# Altium footprint library Resistors THD.PcbLib: 108 footprints (part 5 of 7)
Each footprint in its own frame and in the unit in brackets; x right, y up, seen from the top. Pads: shape width x height; smd on the part's side, far side on the other; paste and mask are expansions set on the pad; w line width, h text height; cw(c..) or ccw(c..) is an arc to the next point about the centre after c.
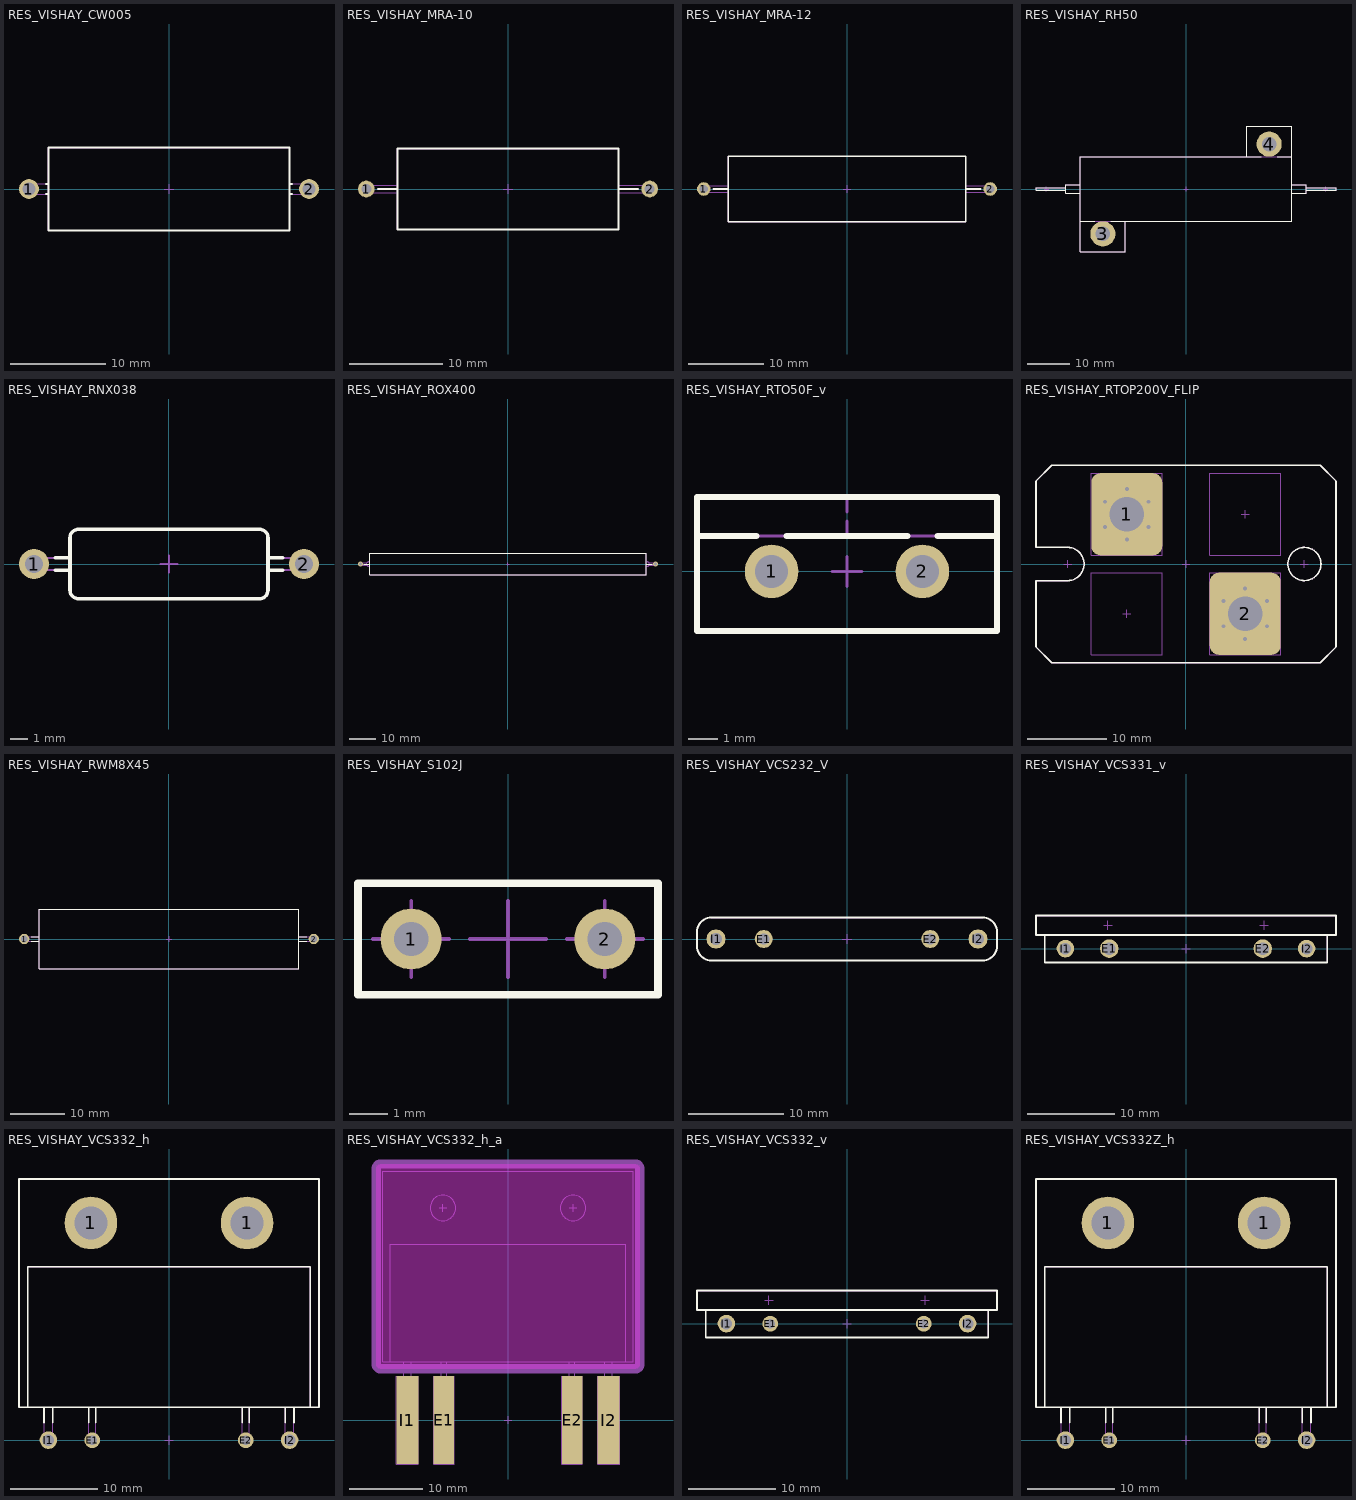
[diagram p4: the footprints below, top view; thin cyan lines are the x and y axes]

## RES_VISHAY_CW005 [mm] "Resistor, Axial, Pad spacing 29.5mm - Body Lengh 25.4mm X Body Diameter 8.74mm"
height 8.74
pads (2):
  round 2.1 hole 1.4: 1(-14.75,0) 2(14.75,0)
Top Overlay:
  lines w0.2: -12.965,-0.535 -12.7,-0.535 ; -12.965,0.535 -12.7,0.535 ; 12.7,-0.535 12.965,-0.535 ; 12.7,0.535 12.965,0.535 ; -12.7,-4.37 12.7,-4.37 12.7,4.37 -12.7,4.37 -12.7,-4.37
Mechanical 8:
  circle w0.05: c14.75,0 r0.7
  circle w0.05: c-14.75,0 r0.7
  lines w0.05: -15.25,0 -14.75,0 ; -14.75,-0.5 -14.75,0 ; -14.75,0.5 -14.75,0 ; -14.25,0 -14.75,0 ; -0.5,0 0,0 ; 0,-0.5 0,0 ; 0,0.5 0,0 ; 0.5,0 0,0 ; 14.25,0 14.75,0 ; 14.75,-0.5 14.75,0 ; 14.75,0.5 14.75,0 ; 15.25,0 14.75,0
Mechanical 14:
  lines w0.1: -12.7,-0.535 -14.75,-0.535 cw(c-14.75,0) -14.75,0.535 -12.7,0.535 ; 12.7,-0.535 14.75,-0.535 ccw(c14.75,0) 14.75,0.535 12.7,0.535 ; -12.7,-4.37 12.7,-4.37 12.7,4.37 -12.7,4.37 -12.7,-4.37
3D body "RES_VISHAY_CW005.stp": height 8.74, standoff -3.6, extent -15.285,-4.37 15.285,4.37

## RES_VISHAY_MRA-10 [mm] "Resistor, Axial, Pad spacing 30.48mm - Body Lengh 22.22mm X Body Diameter 7.92mm"
height 8.71
pads (2):
  round 1.8 hole 1.1: 1(-15.24,0) 2(15.24,0)
Top Overlay:
  lines w0.2: -14.011,0 -11.895,0 ; 11.895,0 14.011,0 ; -11.895,-4.355 -11.895,4.355 11.895,4.355 11.895,-4.355 -11.895,-4.355
Mechanical 8:
  lines w0.1: -15.74,0 -15.24,0 ; -15.24,-0.5 -15.24,0 ; -15.24,0.5 -15.24,0 ; -14.74,0 -15.24,0 ; -0.5,0 0,0 ; 0,-0.5 0,0 ; 0,0.5 0,0 ; 0.5,0 0,0 ; 14.74,0 15.24,0 ; 15.24,-0.5 15.24,0 ; 15.24,0.5 15.24,0 ; 15.74,0 15.24,0
Mechanical 14:
  lines w0.1: -11.895,-0.425 -15.24,-0.425 cw(c-15.24,0) -15.24,0.425 -11.895,0.425 ; 11.895,-0.425 15.24,-0.425 ccw(c15.24,0) 15.24,0.425 11.895,0.425 ; -11.895,-4.355 -11.895,4.355 11.895,4.355 11.895,-4.355 -11.895,-4.355
3D body "RES_VISHAY_RMA-10.stp": height 8.71, standoff -3.8, extent -15.665,-4.34 15.665,4.341

## RES_VISHAY_MRA-12 [mm] "Resistor, Axial, Pad spacing 38.1mm - Body Lengh 30.17mm X Body Diameter 7.92mm"
height 8.71
pads (2):
  round 1.8 hole 1.1: 1(-19.05,0) 2(19.05,0)
Top Overlay:
  lines w0.2: -17.821,0 -15.765,0 ; 15.765,0 17.821,0 ; -15.765,-4.355 -15.765,4.355 15.765,4.355 15.765,-4.355 -15.765,-4.355
Mechanical 8:
  lines w0.1: -19.55,0 -19.05,0 ; -19.05,-0.5 -19.05,0 ; -19.05,0.5 -19.05,0 ; -18.55,0 -19.05,0 ; -0.5,0 0,0 ; 0,-0.5 0,0 ; 0,0.5 0,0 ; 0.5,0 0,0 ; 18.55,0 19.05,0 ; 19.05,-0.5 19.05,0 ; 19.05,0.5 19.05,0 ; 19.55,0 19.05,0
Mechanical 14:
  lines w0.1: -15.765,-0.425 -19.05,-0.425 cw(c-19.05,0) -19.05,0.425 -15.765,0.425 ; 15.765,-0.425 19.05,-0.425 ccw(c19.05,0) 19.05,0.425 15.765,0.425 ; -15.765,-4.355 -15.765,4.355 15.765,4.355 15.765,-4.355 -15.765,-4.355
3D body "RES_VISHAY_MRA-12.stp": height 8.71, standoff -3.8, extent -19.475,-4.34 19.475,4.341

## RES_VISHAY_RH50 [mm] "Heatsink Encased Wirewound Power Resistors - Body Lengh 50mm X Body Width 15.5mm"
height 15
pads (2):
  round 6 hole 3.5: 3(-19.85,-10.7) 4(19.85,10.7)
Top Overlay:
  lines w0.2: -28.7,-0.25 -35.8,-0.25 -35.8,0.25 -28.7,0.25 ; -25.25,-7.75 -21.733,-7.75 ; -25.25,-1 -28.7,-1 -28.7,1 -25.25,1 ; -17.967,-7.75 25.25,-7.75 25.25,14.95 14.45,14.95 14.45,7.75 ; -14.45,-7.75 -14.45,-14.95 -25.25,-14.95 -25.25,7.75 17.967,7.75 ; 21.733,7.75 25.25,7.75 ; 25.25,-1 28.7,-1 28.7,1 25.25,1 ; 28.7,-0.25 35.8,-0.25 35.8,0.25 28.7,0.25
Mechanical 8:
  lines w0.1: -33.8,0 -33.3,0 ; -33.3,-0.5 -33.3,0 ; -33.3,0.5 -33.3,0 ; -32.8,0 -33.3,0 ; -20.35,-10.7 -19.85,-10.7 ; -19.85,-11.2 -19.85,-10.7 ; -19.85,-10.2 -19.85,-10.7 ; -19.35,-10.7 -19.85,-10.7 ; 19.35,10.7 19.85,10.7 ; 19.85,10.2 19.85,10.7 ; 19.85,11.2 19.85,10.7 ; 20.35,10.7 19.85,10.7 ; 32.8,0 33.3,0 ; 33.3,-0.5 33.3,0 ; 33.3,0.5 33.3,0 ; 33.8,0 33.3,0 ; 0,0 0.5,0 0,0 ; 0,0 0,-0.5 0,0 ; 0,0 -0.5,0 0,0 ; 0,0 0,0.5 0,0
Mechanical 14:
  circle w0.1: c19.85,10.7 r1.6
  circle w0.1: c-19.85,-10.7 r1.6
  lines w0.1: -28.7,-0.25 -35.8,-0.25 -35.8,0.25 -28.7,0.25 ; -25.25,-7.75 25.25,-7.75 25.25,14.95 14.45,14.95 14.45,7.75 ; -25.25,-1 -28.7,-1 -28.7,1 -25.25,1 ; -14.45,-7.75 -14.45,-14.95 -25.25,-14.95 -25.25,7.75 25.25,7.75 ; 25.25,-1 28.7,-1 28.7,1 25.25,1 ; 28.7,-0.25 35.8,-0.25 35.8,0.25 28.7,0.25
3D body "RES_VISHAY_RH50.stp": height 15, standoff 0, extent -35.8,-14.95 35.8,14.95

## RES_VISHAY_RNX038 [mm] "Resistor, Axial, Pad spacing 15.24mm - Body Lengh 10.67mm X Body Diameter 3.56mm"
height 3.94
pads (2):
  round 1.7 hole 1: 1(-7.62,0) 2(7.62,0)
Top Overlay:
  lines w0.2: -6.419,-0.345 -5.59,-0.345 ; -6.419,0.345 -5.59,0.345 ; -5.59,-0.702 -5.59,-1.47 ; 5.59,-0.345 6.419,-0.345 ; 5.59,0.345 6.419,0.345 ; -5.59,-1.47 ccw(c-5.09,-1.47) -5.09,-1.97 5.09,-1.97 ccw(c5.09,-1.47) 5.59,-1.47 5.59,1.47 ccw(c5.09,1.47) 5.09,1.97 -5.09,1.97 ccw(c-5.09,1.47) -5.59,1.47 -5.59,-1.47
Mechanical 8:
  lines w0.1: -8.12,0 -7.62,0 ; -7.62,-0.5 -7.62,0 ; -7.62,0.5 -7.62,0 ; -7.12,0 -7.62,0 ; -0.5,0 0,0 ; 0,-0.5 0,0 ; 0,0.5 0,0 ; 0.5,0 0,0 ; 7.12,0 7.62,0 ; 7.62,-0.5 7.62,0 ; 7.62,0.5 7.62,0 ; 8.12,0 7.62,0
Mechanical 14:
  lines w0.1: -5.59,-0.702 -5.59,-1.47 ; -5.59,-0.345 -7.62,-0.345 cw(c-7.62,0) -7.62,0.345 -5.59,0.345 ; 5.59,-0.345 7.62,-0.345 ccw(c7.62,0) 7.62,0.345 5.59,0.345 ; -5.59,-1.47 ccw(c-5.09,-1.47) -5.09,-1.97 5.09,-1.97 ccw(c5.09,-1.47) 5.59,-1.47 5.59,1.47 ccw(c5.09,1.47) 5.09,1.97 -5.09,1.97 ccw(c-5.09,1.47) -5.59,1.47 -5.59,-1.47
3D body "RES_VISHAY_RNX038.stp": height 3.94, standoff -2.7, extent -7.965,-1.956 7.965,1.956

## RES_VISHAY_ROX400 [mm] "Resistor, Axial, Pad spacing 110mm - Body Lengh 105.41mm X Body Diameter 7.87mm"
height 7.87
pads (2):
  round 1.8 hole 1.1: 1(-55,0) 2(55,0)
Top Overlay:
  lines w0.2: -53.7,0 -51.435,0 ; 51.435,0 53.7,0 ; -51.435,-3.935 51.435,-3.935 51.435,3.935 -51.435,3.935 -51.435,-3.935
Mechanical 8:
  lines w0.1: -55.5,0 -55,0 ; -55,-0.5 -55,0 ; -55,0.5 -55,0 ; -54.5,0 -55,0 ; 54.5,0 55,0 ; 55,-0.5 55,0 ; 55,0.5 55,0 ; 55.5,0 55,0 ; 0,0 -0.5,0 0,0 ; 0,0 0,0.5 0,0 ; 0,0 0,-0.5 0,0 ; 0,0 0.5,0 0,0
Mechanical 14:
  lines w0.1: -52.599,-0.4 -52.599,0.4 ; -51.435,-0.799 -51.905,-0.799 cw(c-51.905,0.001) -52.597,-0.4 -55,-0.4 cw(c-55,0) -55,0.4 -52.599,0.4 ; -51.435,0.801 -51.905,0.801 ccw(c-51.905,0.001) -52.599,0.4 ; 51.435,-0.799 51.905,-0.799 ccw(c51.905,0.001) 52.597,-0.4 55,-0.4 ccw(c55,0) 55,0.4 52.599,0.4 ; 51.435,0.801 51.905,0.801 cw(c51.905,0.001) 52.599,0.4 ; 52.599,-0.4 52.599,0.4 ; -51.435,-3.935 -51.435,3.935 51.435,3.935 51.435,-3.935 -51.435,-3.935
3D body "RES_VISHAY_ROX400.stp": height 7.87, standoff -3.6, extent -55.4,-3.935 55.4,3.935

## RES_VISHAY_RTO50F_v [mm] "TO-220 Thick Film Power Resistor"
height 20
pads (2):
  round 1.8 hole 1.1: 1(-2.54,0) 2(2.54,0)
Top Overlay:
  lines w0.2: -5.05,1.2 -3.04,1.2 ; -2.04,1.2 2.04,1.2 ; 3.04,1.2 5.05,1.2 ; -5.05,-2 -5.05,2.5 5.05,2.5 5.05,-2 -5.05,-2
Mechanical 8:
  lines w0.1: -3.04,0 -2.54,0 ; -2.54,-0.5 -2.54,0 ; -2.54,0.5 -2.54,0 ; -2.04,0 -2.54,0 ; -0.5,0 0,0 ; 0,-0.5 0,0 ; 0,0.5 0,0 ; 0,1.2 0,1.7 ; 0,2 0,2.5 ; 0.5,0 0,0 ; 2.04,0 2.54,0 ; 2.54,-0.5 2.54,0 ; 2.54,0.5 2.54,0 ; 3.04,0 2.54,0
Mechanical 14:
  lines w0.1: -5.05,1.2 5.05,1.2 ; -5.05,-2 -5.05,2.5 5.05,2.5 5.05,-2 -5.05,-2
3D body "RES_VISHAY_RTO50F_v.stp": height 20, standoff -3.7, extent -5.05,-2 5.05,2.5

## RES_VISHAY_RTOP200V_FLIP [mm] "SOT-227B Thick Film Power Resistor"
height 12.6
pads (2):
  rrect25% 9x10.4 hole 4.4: 1(-7.5,6.3) 2(7.5,-6.3)
via 4.75,-7.888 diameter 1 hole 0.5
via 7.5,-9.475 diameter 1 hole 0.5
via 10.25,-7.888 diameter 1 hole 0.5
via 10.25,-4.713 diameter 1 hole 0.5
via 7.5,-3.125 diameter 1 hole 0.5
via 4.75,-4.713 diameter 1 hole 0.5
via -10.25,4.713 diameter 1 hole 0.5
via -7.5,3.125 diameter 1 hole 0.5
via -4.75,4.713 diameter 1 hole 0.5
via -4.75,7.888 diameter 1 hole 0.5
via -7.5,9.475 diameter 1 hole 0.5
via -10.25,7.888 diameter 1 hole 0.5
Top Overlay:
  circle w0.2: c15,0 r2.1
  lines w0.2: -19,-10.5 -17,-12.5 17,-12.5 19,-10.5 19,10.5 17,12.5 -17,12.5 -19,10.5 -19,2.1 -15,2.1 cw(c-15,0) -15,-2.1 -19,-2.1 -19,-10.5
Mechanical 8:
  lines w0.1: -15.5,0 -15,0 ; -15,-0.5 -15,0 ; -15,0.5 -15,0 ; -14.5,0 -15,0 ; -8,-6.3 -7.5,-6.3 ; -8,6.3 -7.5,6.3 ; -7.5,-6.8 -7.5,-6.3 ; -7.5,-5.8 -7.5,-6.3 ; -7.5,5.8 -7.5,6.3 ; -7.5,6.8 -7.5,6.3 ; -7,-6.3 -7.5,-6.3 ; -7,6.3 -7.5,6.3 ; -0.5,0 0,0 ; 0,-0.5 0,0 ; 0,0.5 0,0 ; 0.5,0 0,0 ; 7,-6.3 7.5,-6.3 ; 7,6.3 7.5,6.3 ; 7.5,-6.8 7.5,-6.3 ; 7.5,-5.8 7.5,-6.3 ; 7.5,5.8 7.5,6.3 ; 7.5,6.8 7.5,6.3 ; 8,-6.3 7.5,-6.3 ; 8,6.3 7.5,6.3 ; 14.5,0 15,0 ; 15,-0.5 15,0 ; 15,0.5 15,0 ; 15.5,0 15,0 ; -12,-11.5 -3,-11.5 -3,-1.1 -12,-1.1 -12,-11.5 ; -12,1.1 -3,1.1 -3,11.5 -12,11.5 -12,1.1 ; 3,-11.5 12,-11.5 12,-1.1 3,-1.1 3,-11.5 ; 3,1.1 12,1.1 12,11.5 3,11.5 3,1.1
Mechanical 14:
  circle w0.1: c15,0 r2.1
  lines w0.1: -19,-10.5 -17,-12.5 17,-12.5 19,-10.5 19,10.5 17,12.5 -17,12.5 -19,10.5 -19,2.1 -15,2.1 cw(c-15,0) -15,-2.1 -19,-2.1 -19,-10.5
3D body "RES_VISHAY_RTOP200V_FLIP.stp": height 12.6, standoff 0, extent -19,-12.5 19,12.5

## RES_VISHAY_RWM8X45 [mm] "Resistor, Axial, Leads Spacing 52mm, Lead Dia. 0.8, Body Lengh 45.8mm, Diameter 9.4mm"
height 10.9
pads (2):
  round 1.9 hole 1.2: 1(-26.67,0) 2(26.67,0)
Top Overlay:
  lines w0.2: -25.397,-0.45 -23.9,-0.45 ; -25.397,0.45 -23.9,0.45 ; 23.9,-0.45 25.397,-0.45 ; 23.9,0.45 25.397,0.45 ; -23.9,-5.45 -23.9,5.45 23.9,5.45 23.9,-5.45 -23.9,-5.45
Mechanical 8:
  lines w0.1: -27.17,0 -26.67,0 ; -26.67,-0.5 -26.67,0 ; -26.67,0.5 -26.67,0 ; -26.17,0 -26.67,0 ; -0.5,0 0,0 ; 0,-0.5 0,0 ; 0,0.5 0,0 ; 0.5,0 0,0 ; 26.17,0 26.67,0 ; 26.67,-0.5 26.67,0 ; 26.67,0.5 26.67,0 ; 27.17,0 26.67,0
Mechanical 14:
  lines w0.1: -23.9,-0.45 -26.67,-0.45 cw(c-26.67,0) -26.67,0.45 -23.9,0.45 ; 23.9,-0.45 26.67,-0.45 ccw(c26.67,0) 26.67,0.45 23.9,0.45 ; -23.9,-5.45 -23.9,5.45 23.9,5.45 23.9,-5.45 -23.9,-5.45
3D body "RES_VISHAY_RWM8X45.stp": height 10.9, standoff -3.6, extent -27.12,-5.45 27.12,5.45

## RES_VISHAY_S102J [mm] "Resistor, Radial Rectangular, Leads  Spacing 5.08mm - Body 7.62mm X mm X 2.67mm"
height 8.53
pads (2):
  round 1.6 hole 0.9: 1(-2.54,0) 2(2.54,0)
Top Overlay:
  lines w0.2: -3.935,-1.46 3.935,-1.46 3.935,1.46 -3.935,1.46 -3.935,-1.46
Mechanical 8:
  lines w0.1: -3.54,0 -2.54,0 ; -2.54,-1 -2.54,0 ; -2.54,1 -2.54,0 ; -1.54,0 -2.54,0 ; -1,0 0,0 ; 0,-1 0,0 ; 0,1 0,0 ; 1,0 0,0 ; 1.54,0 2.54,0 ; 2.54,-1 2.54,0 ; 2.54,1 2.54,0 ; 3.54,0 2.54,0
Mechanical 14:
  lines w0.1: -3.935,-1.46 3.935,-1.46 3.935,1.46 -3.935,1.46 -3.935,-1.46
3D body "RES_VISHAY_S102J.stp": height 7.87, standoff -3.8, extent -3.935,-1.46 3.935,1.46

## RES_VISHAY_VCS232_V [mm] "4 Leads Ultra High Precision Foil Power Current Sensing Resistor VCS232 Serie"
height 13
pads (4):
  round 1.9 hole 1.2: E1(-8.74,0) E2(8.74,0)
  round 2 hole 1.3: I1(-13.755,0) I2(13.755,0)
Top Overlay:
  lines w0.2: -15.75,-0.75 ccw(c-14.25,-0.75) -14.25,-2.25 14.25,-2.25 ccw(c14.25,-0.75) 15.75,-0.75 15.75,0.75 ccw(c14.25,0.75) 14.25,2.25 -14.25,2.25 ccw(c-14.25,0.75) -15.75,0.75 -15.75,-0.75
Mechanical 8:
  lines w0.1: -14.255,0 -13.755,0 ; -13.755,-0.5 -13.755,0 ; -13.755,0.5 -13.755,0 ; -13.255,0 -13.755,0 ; -9.24,0 -8.74,0 ; -8.74,-0.5 -8.74,0 ; -8.74,0.5 -8.74,0 ; -8.24,0 -8.74,0 ; -0.5,0 0,0 ; 0,-0.5 0,0 ; 0,0.5 0,0 ; 0.5,0 0,0 ; 8.24,0 8.74,0 ; 8.74,-0.5 8.74,0 ; 8.74,0.5 8.74,0 ; 9.24,0 8.74,0 ; 13.255,0 13.755,0 ; 13.755,-0.5 13.755,0 ; 13.755,0.5 13.755,0 ; 14.255,0 13.755,0
Mechanical 14:
  lines w0.1: -15.75,-0.75 ccw(c-14.25,-0.75) -14.25,-2.25 14.25,-2.25 ccw(c14.25,-0.75) 15.75,-0.75 15.75,0.75 ccw(c14.25,0.75) 14.25,2.25 -14.25,2.25 ccw(c-14.25,0.75) -15.75,0.75 -15.75,-0.75
3D body "RES_VISHAY_VCS232_v.stp": height 13, standoff -3.8, extent -15.75,-2.25 15.75,2.25

## RES_VISHAY_VCS331_v [mm] "4 Leads VISHAY VCS331 Case - Vertical Mounting"
height 28
pads (4):
  round 2.1 hole 1.4: E1(-8.75,0) E2(8.75,0)
  round 2 hole 1.3: I1(-13.75,0) I2(13.75,0)
Top Overlay:
  lines w0.2: -16.1,1.565 -16.1,-1.565 16.1,-1.565 16.1,1.565 ; -17.1,1.565 17.1,1.565 17.1,3.765 -17.1,3.765 -17.1,1.565
Mechanical 8:
  lines w0.1: -14.25,0 -13.75,0 ; -13.75,-0.5 -13.75,0 ; -13.75,0.5 -13.75,0 ; -13.25,0 -13.75,0 ; -9.4,2.665 -8.9,2.665 ; -9.25,0 -8.75,0 ; -8.9,2.165 -8.9,2.665 ; -8.9,3.165 -8.9,2.665 ; -8.75,-0.5 -8.75,0 ; -8.75,0.5 -8.75,0 ; -8.4,2.665 -8.9,2.665 ; -8.25,0 -8.75,0 ; -0.5,0 0,0 ; 0,-0.5 0,0 ; 0,0.5 0,0 ; 0.5,0 0,0 ; 8.25,0 8.75,0 ; 8.4,2.665 8.9,2.665 ; 8.75,-0.5 8.75,0 ; 8.75,0.5 8.75,0 ; 8.9,2.165 8.9,2.665 ; 8.9,3.165 8.9,2.665 ; 9.25,0 8.75,0 ; 9.4,2.665 8.9,2.665 ; 13.25,0 13.75,0 ; 13.75,-0.5 13.75,0 ; 13.75,0.5 13.75,0 ; 14.25,0 13.75,0
Mechanical 14:
  lines w0.1: -16.1,1.565 -16.1,-1.565 16.1,-1.565 16.1,1.565 ; -17.1,1.565 17.1,1.565 17.1,3.765 -17.1,3.765 -17.1,1.565
3D body "RES_VISHAY_VCS331_v.stp": height 27, standoff -4.5, extent -17.1,-1.565 17.1,3.765

## RES_VISHAY_VCS332_h [mm] "4 Leads VISHAY VCS332 Case - Horizontal Mounting"
height 5.33
pads (6):
  round 6 hole 3.8: 1(-8.9,24.765) 1(8.9,24.765)
  round 1.8 hole 1.1: E1(-8.75,0) E2(8.75,0)
  round 2 hole 1.3: I1(-13.75,0) I2(13.75,0)
Top Overlay:
  lines w0.2: -16.1,3.765 -16.1,19.765 16.1,19.765 16.1,3.765 ; -14.25,2 -14.25,3.765 ; -13.25,2 -13.25,3.765 ; -9.15,2 -9.15,3.765 ; -8.35,2 -8.35,3.765 ; 8.35,2 8.35,3.765 ; 9.15,2 9.15,3.765 ; 13.25,2 13.25,3.765 ; 14.25,2 14.25,3.765 ; -17.1,3.765 -17.1,29.765 17.1,29.765 17.1,3.765 -17.1,3.765
Mechanical 8:
  lines w0.1: -14.25,0 -13.75,0 ; -13.75,-0.5 -13.75,0 ; -13.75,0.5 -13.75,0 ; -13.25,0 -13.75,0 ; -9.4,24.765 -8.9,24.765 ; -9.25,0 -8.75,0 ; -8.9,24.265 -8.9,24.765 ; -8.9,25.265 -8.9,24.765 ; -8.75,-0.5 -8.75,0 ; -8.75,0.5 -8.75,0 ; -8.4,24.765 -8.9,24.765 ; -8.25,0 -8.75,0 ; -0.5,0 0,0 ; 0,-0.5 0,0 ; 0,0.5 0,0 ; 0.5,0 0,0 ; 8.25,0 8.75,0 ; 8.4,24.765 8.9,24.765 ; 8.75,-0.5 8.75,0 ; 8.75,0.5 8.75,0 ; 8.9,24.265 8.9,24.765 ; 8.9,25.265 8.9,24.765 ; 9.25,0 8.75,0 ; 9.4,24.765 8.9,24.765 ; 13.25,0 13.75,0 ; 13.75,-0.5 13.75,0 ; 13.75,0.5 13.75,0 ; 14.25,0 13.75,0
Mechanical 14:
  circle w0.1: c8.9,24.765 r1.75
  circle w0.1: c-8.9,24.765 r1.75
  lines w0.1: -16.1,3.765 -16.1,19.765 16.1,19.765 16.1,3.765 ; -14.25,3.765 -14.25,0 ccw(c-13.75,0) -13.25,0 -13.25,3.765 ; -9.15,3.765 -9.15,0 ccw(c-8.75,0) -8.35,0 -8.35,3.765 ; 8.35,3.765 8.35,0 ccw(c8.75,0) 9.15,0 9.15,3.765 ; 13.25,3.765 13.25,0 ccw(c13.75,0) 14.25,0 14.25,3.765 ; -17.1,3.765 -17.1,29.765 17.1,29.765 17.1,3.765 -17.1,3.765
3D body "RES_VISHAY_VCS332_h.stp": height 5.33, standoff -3.6, extent -17.1,-0.5 17.1,29.765

## RES_VISHAY_VCS332_h_a [mm] "4 Leads VISHAY VCS332 Case - Horizontal Surface Mount Through The Circuit Board"
height 5.33
pads (4):
  rect 2.8x12 smd paste-1.4: E1(-8.75,0) E2(8.75,0)
  rect 3x12 smd paste-1.5: I1(-13.75,0) I2(13.75,0)
Keep-Out Layer:
  board cut-out: -18,7.6 -18,7.481 -17.909,7.26 -17.74,7.091 -17.519,7 -17.4,7 17.4,7 17.519,7 17.74,7.091 17.909,7.26 18,7.481 18,7.6 18,34.4 18,34.519 17.909,34.74 17.74,34.909 17.519,35 17.4,35 -17.4,35 -17.519,35 -17.74,34.909 -17.909,34.74 -18,34.519 -18,34.4
Mechanical 1:
  lines w1.27: -18,7.6 ccw(c-17.4,7.6) -17.4,7 17.4,7 ccw(c17.4,7.6) 18,7.6 18,34.4 ccw(c17.4,34.4) 17.4,35 -17.4,35 ccw(c-17.4,34.4) -18,34.4 -18,7.6
Mechanical 8:
  lines w0.1: -14.25,0 -13.75,0 ; -13.75,-0.5 -13.75,0 ; -13.75,0.5 -13.75,0 ; -13.25,0 -13.75,0 ; -9.4,29 -8.9,29 ; -9.25,0 -8.75,0 ; -8.9,28.5 -8.9,29 ; -8.9,29.5 -8.9,29 ; -8.75,-0.5 -8.75,0 ; -8.75,0.5 -8.75,0 ; -8.4,29 -8.9,29 ; -8.25,0 -8.75,0 ; -0.5,0 0,0 ; 0,-0.5 0,0 ; 0,0.5 0,0 ; 0.5,0 0,0 ; 8.25,0 8.75,0 ; 8.4,29 8.9,29 ; 8.75,-0.5 8.75,0 ; 8.75,0.5 8.75,0 ; 8.9,28.5 8.9,29 ; 8.9,29.5 8.9,29 ; 9.25,0 8.75,0 ; 9.4,29 8.9,29 ; 13.25,0 13.75,0 ; 13.75,-0.5 13.75,0 ; 13.75,0.5 13.75,0 ; 14.25,0 13.75,0 ; -18,7.6 ccw(c-17.4,7.6) -17.4,7 17.4,7 ccw(c17.4,7.6) 18,7.6 18,34.4 ccw(c17.4,34.4) 17.4,35 -17.4,35 ccw(c-17.4,34.4) -18,34.4 -18,7.6 ; -15.25,-6 -15.25,6 -12.25,6 -12.25,-6 -15.25,-6 ; -10.15,-6 -10.15,6 -7.35,6 -7.35,-6 -10.15,-6 ; 7.35,-6 7.35,6 10.15,6 10.15,-6 7.35,-6 ; 12.25,-6 12.25,6 15.25,6 15.25,-6 12.25,-6
Mechanical 14:
  circle w0.1: c8.9,29 r1.75
  circle w0.1: c-8.9,29 r1.75
  lines w0.1: -16.1,8 -16.1,24 16.1,24 16.1,8 ; -14.25,8 -14.25,-5 -13.25,-5 -13.25,8 ; -9.15,8 -9.15,-5 -8.35,-5 -8.35,8 ; 8.35,8 8.35,-5 9.15,-5 9.15,8 ; 13.25,8 13.25,-5 14.25,-5 14.25,8 ; -17.1,8 -17.1,34 17.1,34 17.1,8 -17.1,8
Drill Drawing:
  lines w0.1: -18.1,13.9 18.1,13.9 ; -18,13.5 -18,14.4 ; -17.4,13.682 -18,13.9 -17.4,14.118 ; -15.4,35 -14.5,35 ; -15.218,7.6 -15,7 ; -15.218,34.4 -15,35 ; -14.782,7.6 -15,7 ; -14.782,34.4 -15,35 ; -0.5,21 0,21 ; 0,20.5 0,21 ; 0,21.5 0,21 ; 0.5,21 0,21 ; 13.52,7.927 17.073,7.927 17.824,7.176 ; 16.918,7.598 17.824,7.176 ; 17.4,13.682 18,13.9 17.4,14.118 ; 17.402,8.082 17.824,7.176 ; -15,7 -15,35 ; -18,7.6 ccw(c-17.4,7.6) -17.4,7 17.4,7 ccw(c17.4,7.6) 18,7.6 18,34.4 ccw(c17.4,34.4) 17.4,35 -17.4,35 ccw(c-17.4,34.4) -18,34.4 -18,7.6 ; -15.4,7 -14.5,7 -15.4,7 ; 18,13.5 18,14.4 18,13.5
  text "28mm" at -15.279,19.335 h1
  text "36mm" at -2.127,14.135 h1
  text "r0.6" at 13.613,8.042 h1
3D body "RES_VISHAY_VCS332_h_a.stp": height 2.13, standoff -3.2, extent -17.1,-5 17.1,34

## RES_VISHAY_VCS332_v [mm] "4 Leads VISHAY VCS332 Case - Vertical Mounting"
height 31
pads (4):
  round 1.8 hole 1.1: E1(-8.75,0) E2(8.75,0)
  round 2 hole 1.3: I1(-13.75,0) I2(13.75,0)
Top Overlay:
  lines w0.2: -16.1,1.565 -16.1,-1.565 16.1,-1.565 16.1,1.565 ; -17.1,1.565 -17.1,3.765 17.1,3.765 17.1,1.565 -17.1,1.565
Mechanical 8:
  lines w0.1: -14.25,0 -13.75,0 ; -13.75,-0.5 -13.75,0 ; -13.75,0.5 -13.75,0 ; -13.25,0 -13.75,0 ; -9.4,2.665 -8.9,2.665 ; -9.25,0 -8.75,0 ; -8.9,2.165 -8.9,2.665 ; -8.9,3.165 -8.9,2.665 ; -8.75,-0.5 -8.75,0 ; -8.75,0.5 -8.75,0 ; -8.4,2.665 -8.9,2.665 ; -8.25,0 -8.75,0 ; -0.5,0 0,0 ; 0,-0.5 0,0 ; 0,0.5 0,0 ; 0.5,0 0,0 ; 8.25,0 8.75,0 ; 8.4,2.665 8.9,2.665 ; 8.75,-0.5 8.75,0 ; 8.75,0.5 8.75,0 ; 8.9,2.165 8.9,2.665 ; 8.9,3.165 8.9,2.665 ; 9.25,0 8.75,0 ; 9.4,2.665 8.9,2.665 ; 13.25,0 13.75,0 ; 13.75,-0.5 13.75,0 ; 13.75,0.5 13.75,0 ; 14.25,0 13.75,0
Mechanical 14:
  lines w0.1: -16.1,1.565 -16.1,-1.565 16.1,-1.565 16.1,1.565 ; -17.1,1.565 -17.1,3.765 17.1,3.765 17.1,1.565 -17.1,1.565
3D body "RES_VISHAY_VCS332_v.stp": height 31, standoff -3.6, extent -17.1,-1.565 17.1,3.765

## RES_VISHAY_VCS332Z_h [mm] "4 Leads VISHAY VCS332Z Case - Horizontal Mounting"
height 5.33
pads (6):
  round 6 hole 3.8: 1(-8.9,24.765) 1(8.9,24.765)
  round 1.8 hole 1.1: E1(-8.75,0) E2(8.75,0)
  round 2 hole 1.3: I1(-13.75,0) I2(13.75,0)
Top Overlay:
  lines w0.2: -16.1,3.765 -16.1,19.765 16.1,19.765 16.1,3.765 ; -14.25,2 -14.25,3.765 ; -13.25,2 -13.25,3.765 ; -9.15,2 -9.15,3.765 ; -8.35,2 -8.35,3.765 ; 8.35,2 8.35,3.765 ; 9.15,2 9.15,3.765 ; 13.25,2 13.25,3.765 ; 14.25,2 14.25,3.765 ; -17.1,3.765 -17.1,29.765 17.1,29.765 17.1,3.765 -17.1,3.765
Mechanical 8:
  lines w0.1: -14.25,0 -13.75,0 ; -13.75,-0.5 -13.75,0 ; -13.75,0.5 -13.75,0 ; -13.25,0 -13.75,0 ; -9.4,24.765 -8.9,24.765 ; -9.25,0 -8.75,0 ; -8.9,24.265 -8.9,24.765 ; -8.9,25.265 -8.9,24.765 ; -8.75,-0.5 -8.75,0 ; -8.75,0.5 -8.75,0 ; -8.4,24.765 -8.9,24.765 ; -8.25,0 -8.75,0 ; -0.5,0 0,0 ; 0,-0.5 0,0 ; 0,0.5 0,0 ; 0.5,0 0,0 ; 8.25,0 8.75,0 ; 8.4,24.765 8.9,24.765 ; 8.75,-0.5 8.75,0 ; 8.75,0.5 8.75,0 ; 8.9,24.265 8.9,24.765 ; 8.9,25.265 8.9,24.765 ; 9.25,0 8.75,0 ; 9.4,24.765 8.9,24.765 ; 13.25,0 13.75,0 ; 13.75,-0.5 13.75,0 ; 13.75,0.5 13.75,0 ; 14.25,0 13.75,0
Mechanical 14:
  circle w0.1: c8.9,24.765 r1.75
  circle w0.1: c-8.9,24.765 r1.75
  lines w0.1: -16.1,3.765 -16.1,19.765 16.1,19.765 16.1,3.765 ; -14.25,3.765 -14.25,0 ccw(c-13.75,0) -13.25,0 -13.25,3.765 ; -9.15,3.765 -9.15,0 ccw(c-8.75,0) -8.35,0 -8.35,3.765 ; 8.35,3.765 8.35,0 ccw(c8.75,0) 9.15,0 9.15,3.765 ; 13.25,3.765 13.25,0 ccw(c13.75,0) 14.25,0 14.25,3.765 ; -17.1,3.765 -17.1,29.765 17.1,29.765 17.1,3.765 -17.1,3.765
3D body "RES_VISHAY_VCS332Z_h.stp": height 5.33, standoff -3.6, extent -17.1,-0.5 17.1,29.765